# Altium schematic symbol library USB_C_16P.SchLib: 1 symbol
Pins are listed as number, name and electrical type; pins without a type are passive.

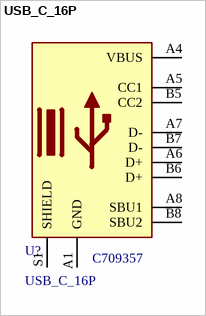
[diagram p0: symbol USB_C_16P]

## USB_C_16P
designator U?  LCSC: C709357
3A 1 Surface Mount 16P Female -40℃~+85℃ Type-C SMD  USB Connectors ROHS
footprint USB_C_16P
pins: A1 GND, A4 VBUS, A5 CC1, A6 D+, A7 D-, A8 SBU1, B5 CC2, B6 D+, B7 D-, B8 SBU2, S1 SHIELD